# Altium schematic symbol library Other.SchLib: 179 symbols (part 1 of 11)
Pins are listed as number, name and electrical type; pins without a type are passive.

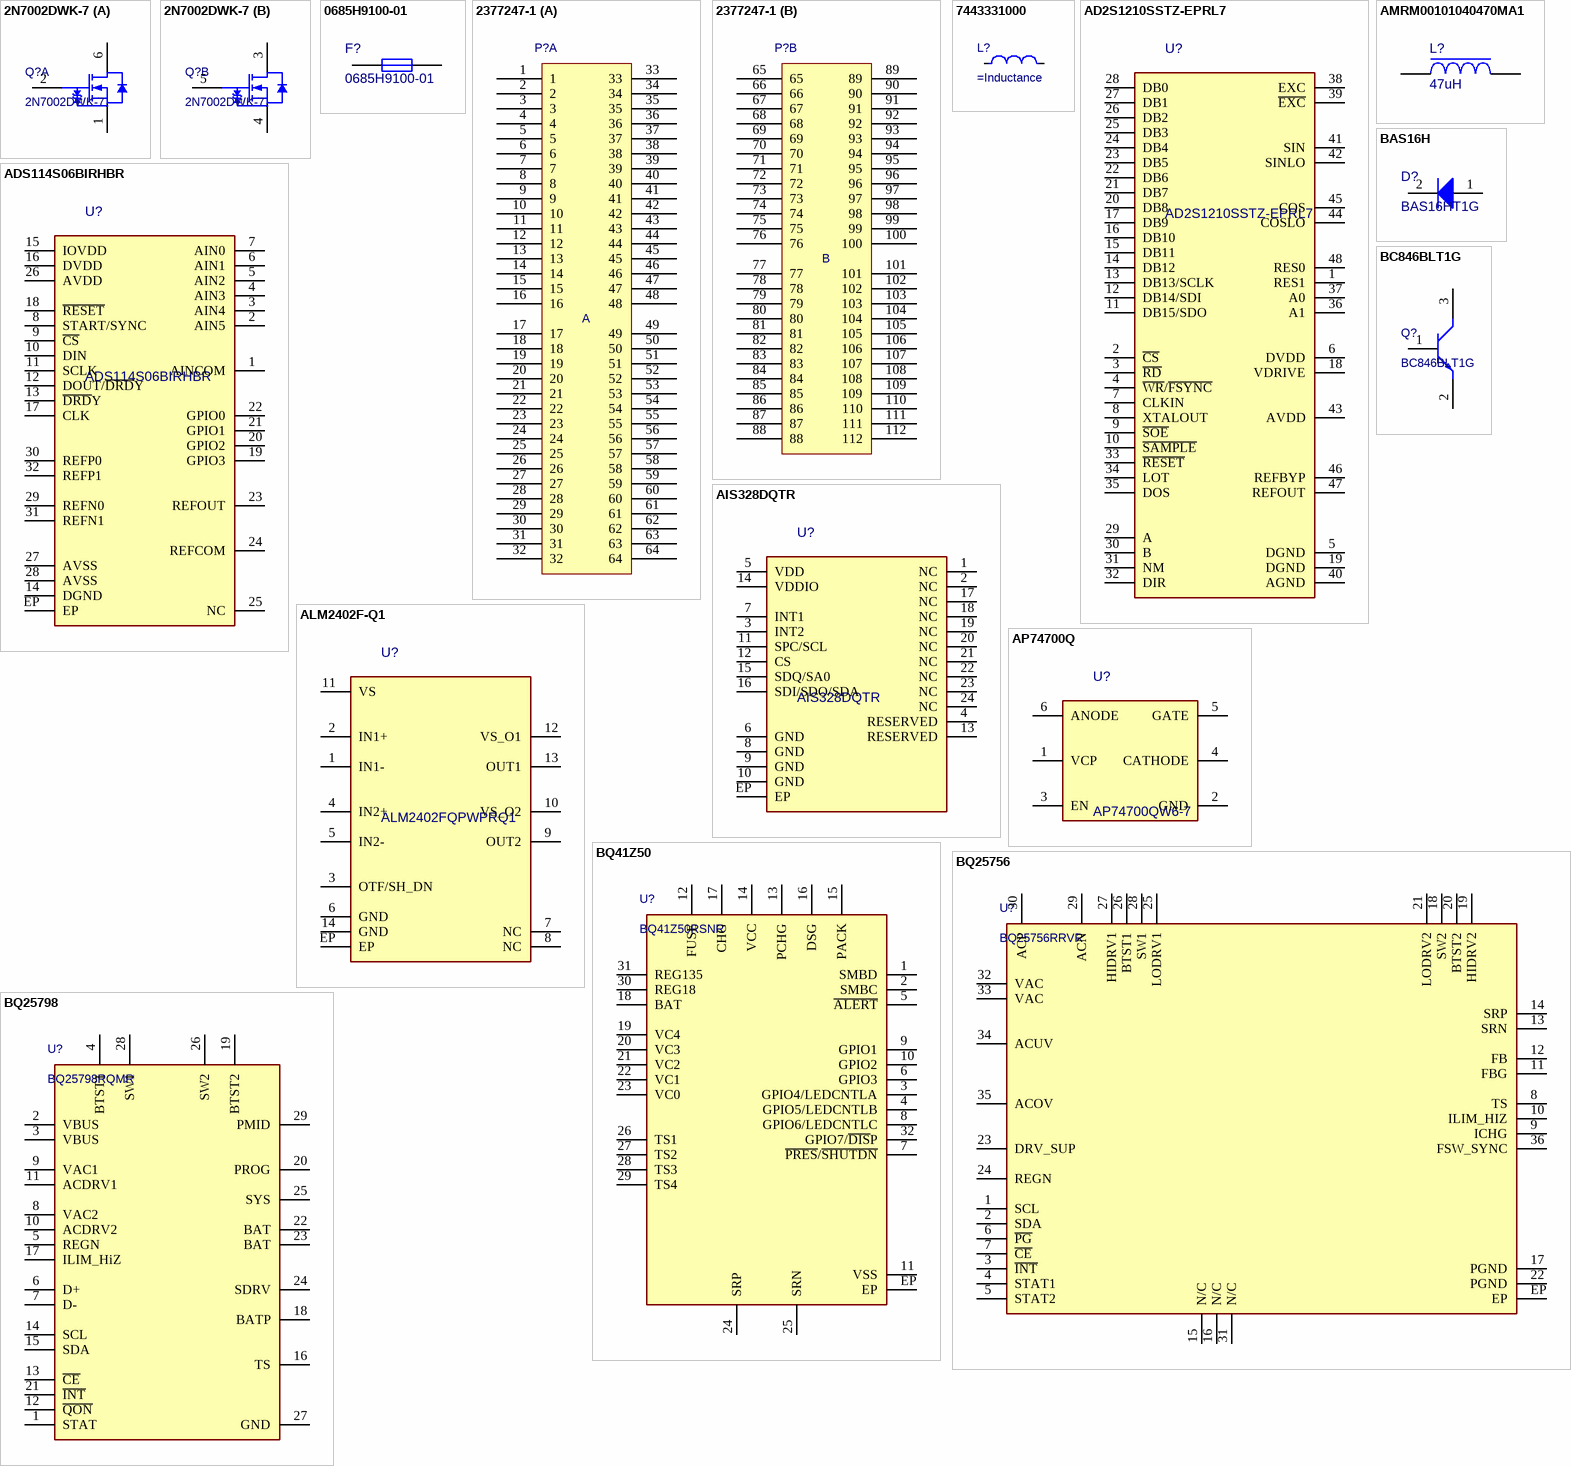
[diagram p0: symbols 2N7002DWK-7 to BQ25798]

## 2N7002DWK-7
designator Q?
MOSFET 2N-CH 60V 0.261A SOT363; Manufacturer: Diodes; Supplier: Digikey; Supplier Part Number: 31-2N7002DWK-7CT-ND; Manufacturer Part Number: 2N7002DWK-7; RoHS: No; Category: Uncategorized; Stock: 2664; Pricing: 1=0,21, 10=0,142, 100=0,0931, 500=0,07452, 1000=0,06584 (USD); Supplier 1: Digikey; Supplier Part Number 1: 31-2N7002DWK-7CT-ND
footprint SOT-363 (6 pin, 2x2.1mm)
part A pins: 1 S1, 2 G1, 6 D1
part B pins: 3 D2, 4 S2, 5 G2

## 0685H9100-01
designator F?
Fuse Chip Fast Acting 10A 125V SMD Solder Pad 1206 3.2 X 1.58 X 0.65mm Ceramic; Manufacturer: Bel Fuse; Time to Trip: 5s; Voltage Rating (DC): 32V; Supplier 1: DigiKey; Supplier Part Number 1: 5923-0685H9100-01CT-ND; Supplier: DigiKey; Supplier Part Number: 5923-0685H9100-01CT-ND; Manufacturer Part Number: 0685H9100-01; RoHS: Compliant; Category: Fuses; Stock: 123363; Pricing: 1=0,36, 5=0,302, 10=0,278, 50=0,2308, 100=0,213, 250=0,19152, 500=0,17666, 1000=0,16294 (USD); China RoHS: Compliant; Current Rating: 10A; Height: 650µm; Length: 3.2mm; Lifecycle Status: Production; Max Operating Temperature: 125°C; Min Operating Temperature: -55°C; Mounting Technology: Surface Mount; REACH SVHC: Yes; Schedule B: 8536100040, 8536100040|8536100040|8536100040|8536100040|8536100040; Voltage Rating (AC): 125V; ComponentLink1URL: https://datasheet.octopart.com:443/0685H9100-01-Bel-Fuse-datasheet-137317061.pdf?src-supplier=IHS; ComponentLink1Description: https://datasheet.octopart.com:443/0685H9100-01-Bel-Fuse-datasheet-137317061.pdf?src-supplier=IHS; ComponentLink2URL: https://datasheet.octopart.com:443/0685H9100-01-Bel-Fuse-datasheet-104408181.pdf?src-supplier=element14+APAC; ComponentLink2Description: https://datasheet.octopart.com:443/0685H9100-01-Bel-Fuse-datasheet-104408181.pdf?src-supplier=element14+APAC
footprint FUSE1206
pins: 1, 2

## 2377247-1
designator P?
footprint 32377247-1 (Automotive Connector 112Pin)
part A pins: 1, 2, 3, 4, 5, 6, 7, 8, 9, 10, 11, 12, 13, 14, 15, 16, 17, 18, 19, 20, 21, 22, 23, 24, 25, 26, 27, 28, 29, 30, 31, 32, 33, 34, 35, 36, 37, 38, 39, 40, 41, 42, 43, 44, 45, 46, 47, 48, 49, 50, 51, 52, 53, 54, 55, 56, 57, 58, 59, 60, 61, 62, 63, 64
part B pins: 65, 66, 67, 68, 69, 70, 71, 72, 73, 74, 75, 76, 77, 78, 79, 80, 81, 82, 83, 84, 85, 86, 87, 88, 89, 90, 91, 92, 93, 94, 95, 96, 97, 98, 99, 100, 101, 102, 103, 104, 105, 106, 107, 108, 109, 110, 111, 112
part A text: A
part B text: B

## 7443331000
designator L?
PowerChoke Shielded Wirewound 10uH 20% 100KHz Ferrite 9A 0.0231Ohm DCR Automotive T/R; Manufacturer: Wurth Elektronik; Manufacturer Part Number: 7443331000; DC Resistance (DCR): 22.75mΩ; Value: 10µH; Saturation Current: 9.4A; Self Resonant Frequency: 35MHz; Supplier: DigiKey; Supplier Part Number: 732-2158-1-ND; RoHS: Compliant; Category: Fixed Inductors; Stock: 12212; Pricing: 1=2,4, 10=2,32, 50=2,21, 100=2,13, 200=2,05 (USD); Ambient Temperature Range High: 75°C; Ambient Temperature Range Low: -40°C; Core Material: Ferrite; Current Rating: 9A; Height: 9.3mm; Inductance Tolerance: 20%; Length: 10.9mm; Material: Ferrite; Max Operating Temperature: 125°C; Min Operating Temperature: -40°C; Pins: 2; Width: 10mm; Inductance: 10µH; Supplier 1: DigiKey; Supplier Part Number 1: 732-2158-1-ND
pins: 1, 2

## AD2S1210SSTZ-EPRL7
designator U?
Variable Resolution, 10-Bit to 16-Bit R/D Converter with Reference Oscillator; Manufacturer: Analog Devices; Manufacturer Lifecycle Status: PRODUCTION; Interface: Parallel; Max Supply Voltage: 5.25V; Min Supply Voltage: 2.3V; Number of Channels: 2; Number of Converters: 1; Supplier 1: DigiKey; Supplier Part Number 1: 505-AD2S1210SSTZ-EPRL7CT-ND; Supplier: DigiKey; Supplier Part Number: 505-AD2S1210SSTZ-EPRL7CT-ND; Manufacturer Part Number: AD2S1210SSTZ-EPRL7; RoHS: Compliant; Category: Analog to Digital Converters (ADCs); Stock: 1388; Pricing: 1=36,68, 10=27,104, 25=24,95 (USD); Height: 1.6mm; Lifecycle Status: Production; Max Operating Temperature: 125°C; Min Operating Temperature: -40°C; Pins: 48; Schedule B: 8542390000, 8542390000|8542390000|8542390000|8542390000|8542390000|8542390000|8542390000|8542390000|8542390000|8542390000|8542390000|8542390000|8542390000|8542390000|8542390000|8542390000|8542390000|8542390000|8542390000|8542390000|8542390000|8542390000|8542390000|85; ComponentLink1URL: https://octopart.com:443/opatz8j6/c1?t=k6fJq6adrThdFycxtWTAnGFkOg80_DDUf2LogCT04gbzbe5BdBYrLFXnxFNandYyDPTV6rZWvFV2u5dAnLu4JsdXWEnecjpqc8hWMCwqGekMMp6kHhXDZa9P5HJITyOD5-VOaIhH71EaW9V9387lyfDJyPC-cQ1uiwGWwiloigfyQoUQQpcB8iB8RNLaBlcKqWrCL5SUsZXmx1U_xgDZKDZnY-eyE1vsltANIZMxL3YaJqaBAjg57PlAWL_CwrTWUsNp9kqOjzd23eczO6wHPI3Gh1TFdUTDlWJM4gP7Q3B-9ihoeQ81fcS2&src-supplier=Analog+Devices; ComponentLink1Description: https://octopart.com:443/opatz8j6/c1?t=k6fJq6adrThdFycxtWTAnGFkOg80_DDUf2LogCT04gbzbe5BdBYrLFXnxFNandYyDPTV6rZWvFV2u5dAnLu4JsdXWEnecjpqc8hWMCwqGekMMp6kHhXDZa9P5HJITyOD5-VOaIhH71EaW9V9387lyfDJyPC-cQ1uiwGWwiloigfyQoUQQpcB8iB8RNLaBlcKqWrCL5SUsZXmx1U_xgDZKDZnY-eyE1vsltANIZMxL3YaJqaBAjg57PlAWL_CwrTWUsNp9kqOjzd23eczO6wHPI3Gh1TFdUTDlWJM4gP7Q3B-9ihoeQ81fcS2&src-supplier=Analog+Devices; ComponentLink2URL: https://datasheet.octopart.com:443/AD2S1210SSTZ-EPRL7-Analog-Devices-datasheet-155502637.pdf?src-supplier=Upverter; ComponentLink2Description: https://datasheet.octopart.com:443/AD2S1210SSTZ-EPRL7-Analog-Devices-datasheet-155502637.pdf?src-supplier=Upverter; ComponentLink3URL: https://sigma.octopart.com:443/138896181/technical_drawing/Analog-Devices-AD2S1210SSTZ-EPRL7.pdf?src-supplier=Upverter; ComponentLink3Description: https://sigma.octopart.com:443/138896181/technical_drawing/Analog-Devices-AD2S1210SSTZ-EPRL7.pdf?src-supplier=Upverter; ComponentLink4URL: https://datasheet.octopart.com:443/AD2S1210SSTZ-EPRL7-Analog-Devices-datasheet-15541385.pdf?src-supplier=SHENGYU+ELECTRONICS; ComponentLink4Description: https://datasheet.octopart.com:443/AD2S1210SSTZ-EPRL7-Analog-Devices-datasheet-15541385.pdf?src-supplier=SHENGYU+ELECTRONICS; ComponentLink5URL: http://sigma.octopart.com:80/conflict_mineral_statement/Analog-Devices-company-33.pdf?src-supplier=Compliance+Statements; ComponentLink5Description: http://sigma.octopart.com:80/conflict_mineral_statement/Analog-Devices-company-33.pdf?src-supplier=Compliance+Statements; ComponentLink6URL: https://octopart.com:443/opatz8j6/c1?t=bUe-dHj52XTV9pQd6nvf8dvS-SlRDfG4kQbxo-JYlAUIf5xyTYN7Z74yZGolmkEVrRt14p2BUM1wYeKEmZ3p_PjBWAA9WCOR7G2CpJiKyGnar8Vuh7Hn9xVCu4BotM6DQhgv_nRphq5yYxQKxMDDqcZDafTpRiVNhaQkisKsT5PHNe5ktrcX3E6RzgxdIKQpGzV0TbFFt98g9YpT0LzNZjnccmwLyscWakWMjV_IP_gC4saAMPg4JPa585gSA3GixtayfKwqboOU7rvKB-6P3cz7o3LBbqMbDrEzvUjUsAv5-Xk-PQxoKxCz&src-supplier=Compliance+Statements; ComponentLink6Description: https://octopart.com:443/opatz8j6/c1?t=bUe-dHj52XTV9pQd6nvf8dvS-SlRDfG4kQbxo-JYlAUIf5xyTYN7Z74yZGolmkEVrRt14p2BUM1wYeKEmZ3p_PjBWAA9WCOR7G2CpJiKyGnar8Vuh7Hn9xVCu4BotM6DQhgv_nRphq5yYxQKxMDDqcZDafTpRiVNhaQkisKsT5PHNe5ktrcX3E6RzgxdIKQpGzV0TbFFt98g9YpT0LzNZjnccmwLyscWakWMjV_IP_gC4saAMPg4JPa585gSA3GixtayfKwqboOU7rvKB-6P3cz7o3LBbqMbDrEzvUjUsAv5-Xk-PQxoKxCz&src-supplier=Compliance+Statements
footprint LQFP48 (48 Pin, Body 7x7x1.4)
pins: 1 RES1, 2 ~{CS}, 3 ~{RD}, 4 ~{WR}/~{FSYNC}, 5 DGND, 6 DVDD, 7 CLKIN, 8 XTALOUT, 9 ~{SOE}, 10 ~{SAMPLE}, 11 DB15/SDO, 12 DB14/SDI, 13 DB13/SCLK, 14 DB12, 15 DB11, 16 DB10, 17 DB9, 18 VDRIVE, 19 DGND, 20 DB8, 21 DB7, 22 DB6, 23 DB5, 24 DB4, 25 DB3, 26 DB2, 27 DB1, 28 DB0, 29 A, 30 B, 31 NM, 32 DIR, 33 ~{RESET}, 34 LOT, 35 DOS, 36 A1, 37 A0, 38 EXC, 39 ~{EXC}, 40 AGND, 41 SIN, 42 SINLO, 43 AVDD, 44 COSLO, 45 COS, 46 REFBYP, 47 REFOUT, 48 RES0

## ADS114S06BIRHBR
designator U?
IC ADC 16BIT SIGMA-DELTA 32VQFN; Manufacturer: Texas Instruments; Supplier: Digikey; Supplier Part Number: 296-50878-2-ND; Manufacturer Part Number: ADS114S06BIRHBR; RoHS: Yes; Category: Analog to Digital Converters (ADCs); Pricing: 3000=3,76815 (USD); ComponentLink1URL: http://www.ti.com/lit/ds/symlink/ads114s06b.pdf?src-supplier=Digikey; ComponentLink1Description: http://www.ti.com/lit/ds/symlink/ads114s06b.pdf?src-supplier=Digikey; ComponentLink2URL: http://www.ti.com/lit/pdf/slyy041?src-supplier=Digikey; ComponentLink2Description: http://www.ti.com/lit/pdf/slyy041?src-supplier=Digikey; Supplier 1: Digikey; Supplier Part Number 1: 296-50878-2-ND
footprint VQFN32 (VQFN, 32-Leads, Body 5x5mm)
pins: 1 AINCOM, 2 AIN5, 3 AIN4, 4 AIN3, 5 AIN2, 6 AIN1, 7 AIN0, 8 START/SYNC, 9 ~{CS}, 10 DIN, 11 SCLK, 12 DOUT/~{DRD}Y, 13 ~{DRD}Y, 14 DGND, 15 IOVDD, 16 DVDD, 17 CLK, 18 ~{RESET}, 19 GPIO3, 20 GPIO2, 21 GPIO1, 22 GPIO0, 23 REFOUT, 24 REFCOM, 25 NC, 26 AVDD, 27 AVSS, 28 AVSS, 29 REFN0, 30 REFP0, 31 REFN1, 32 REFP1, EP

## AIS328DQTR
designator U?
High-performance ultra low-power 3-axis accelerometer | ACCELEROMETER 2-8G I2C/SPI 24QFN; Manufacturer: STMicroelectronics; Axis: X, Y, Z; Bandwidth: 500Hz; Max Supply Voltage: 3.6V; Min Supply Voltage: 2.4V; Nominal Supply Current: 450µA; Number of Circuits: 1; Operating Supply Voltage: 3.3V; Output Type: Digital; Supplier 1: DigiKey; Supplier Part Number 1: 497-13219-1-ND; Supplier: DigiKey; Supplier Part Number: 497-13219-1-ND; Manufacturer Part Number: AIS328DQTR; RoHS: Compliant; Category: Accelerometers; Stock: 11747; Pricing: 1=7,44, 5=6,716, 10=6,444, 25=6,1204, 50=5,8992, 100=5,6965, 500=5,508 (USD); Case/Package: QFN; China RoHS: Compliant; Contact Plating: Tin; Height - Seated (Max): 1.85mm; Lead Free: Lead Free; Length: 4mm; Lifecycle Status: Production; Max Operating Temperature: 105°C; Min Operating Temperature: -40°C; Mounting Technology: Surface Mount; Pins: 24; Number of Terminals: 24; Packaging: Tape & Reel; Radiation Hardening: No; REACH SVHC: Yes; Schedule B: 8542390000, 8542390000|8542390000|8542390000|8542390000|8542390000|8542390000|8542390000|8542390000|8542390000|8542390000|8542390000|8542390000|8542390000|8542390000|8542390000|8542390000|8542390000|8542390000|8542390000|8542390000|8542390000|8542390000|8542390000|85; Terminal Pitch: 500µm; Width: 4mm; ComponentLink1URL: https://datasheet.octopart.com:443/AIS328DQTR-STMicroelectronics-datasheet-12523467.pdf?src-supplier=Newark; ComponentLink1Description: https://datasheet.octopart.com:443/AIS328DQTR-STMicroelectronics-datasheet-12523467.pdf?src-supplier=Newark; ComponentLink2URL: https://datasheet.octopart.com:443/AIS328DQTR-STMicroelectronics-datasheet-10836675.pdf?src-supplier=Factory+Futures; ComponentLink2Description: https://datasheet.octopart.com:443/AIS328DQTR-STMicroelectronics-datasheet-10836675.pdf?src-supplier=Factory+Futures; ComponentLink3URL: https://datasheet.octopart.com:443/AIS328DQTR-STMicroelectronics-datasheet-141402747.pdf?src-supplier=element14+APAC; ComponentLink3Description: https://datasheet.octopart.com:443/AIS328DQTR-STMicroelectronics-datasheet-141402747.pdf?src-supplier=element14+APAC
footprint VQFN24 (VQFN, 16-Leads, Body 4x4mm)
pins: 1 NC, 2 NC, 3 INT2, 4 RESERVED, 5 VDD, 6 GND, 7 INT1, 8 GND, 9 GND, 10 GND, 11 SPC/SCL, 12 CS, 13 RESERVED, 14 VDDIO, 15 SDQ/SA0, 16 SDI/SDO/SDA, 17 NC, 18 NC, 19 NC, 20 NC, 21 NC, 22 NC, 23 NC, 24 NC, EP

## ALM2402F-Q1
designator U?, comment ALM2402FQPWPRQ1
Dual operational amplifier with high current output and slew rate 14-HTSSOP -40 to 125; Manufacturer: Texas Instruments; Manufacturer Lifecycle Status: ACTIVE; Input Bias Current: 3.5nA; Input Offset Voltage (Vos): 1mV; Max Supply Voltage: 16V; Min Supply Voltage: 4.5V; Number of Channels: 2; Output Current per Channel: 400mA; Response Time: 2µs; Voltage Gain: 93dB; Supplier 1: DigiKey; Supplier Part Number 1: 296-ALM2402FQPWPRQ1CT-ND; Supplier: DigiKey; Supplier Part Number: 296-ALM2402FQPWPRQ1CT-ND; Manufacturer Part Number: ALM2402FQPWPRQ1; RoHS: Compliant; Category: Amplifiers - Op Amps, Buffer, Instrumentation; Stock: 2833; Pricing: 1=3,33, 10=2,502, 25=2,2952, 100=2,0672, 250=1,95848, 500=1,89296, 1000=1,83904 (USD); Ambient Temperature Range High: 125°C; Height: 1.2mm; Length: 5mm; Lifecycle Status: Production; Max Operating Temperature: 125°C; Min Operating Temperature: -40°C; Pins: 14; Thickness: 1mm; Width: 4.4mm; ComponentLink1URL: https://sigma.octopart.com:443/159569814/technical_drawing/Texas-Instruments-ALM2402FQPWPRQ1.pdf?src-supplier=Texas+Instruments; ComponentLink1Description: https://sigma.octopart.com:443/159569814/technical_drawing/Texas-Instruments-ALM2402FQPWPRQ1.pdf?src-supplier=Texas+Instruments; ComponentLink2URL: https://octopart.com:443/opatz8j6/c1?t=ZPJvvuPEpGpES_y9EoHHU01kErOd9eZN7Gx7z2LTZC5bpM9zJnn1LW-JbGqNri5mz2O5lzJ6UhfOc46BO5zOXJrvDKm0VlnxasqbOLQLOgbPoqEdQG3t9SYm2umos89xdDxf0XR27TUST3JNQlDir6P_KbZ1PxZHW9d-RdisXjF-EWsCDIFtIXJ6PS1KiiVKRk2qpXgEQkvnhlyRkUvVqJJgydVmn0OgYlFDpXYimEwaFlUpuIdaDGZmuFo_-uwRGj4YbJSrjYeBWO0Q_-UyrcG1wvn-j-xBbbnvHOa98eOF4czOQdpe2uraEiOfYVpG4pgI5ze8N1Yo4dbsKj3lJ-AfM_D9BxtgFVry6fSkeAtcCVjhbb--6O4yKaCOhRt7Vqt9W7T5dZ7d6Q&src-supplier=Texas+Instruments; ComponentLink2Description: https://octopart.com:443/opatz8j6/c1?t=ZPJvvuPEpGpES_y9EoHHU01kErOd9eZN7Gx7z2LTZC5bpM9zJnn1LW-JbGqNri5mz2O5lzJ6UhfOc46BO5zOXJrvDKm0VlnxasqbOLQLOgbPoqEdQG3t9SYm2umos89xdDxf0XR27TUST3JNQlDir6P_KbZ1PxZHW9d-RdisXjF-EWsCDIFtIXJ6PS1KiiVKRk2qpXgEQkvnhlyRkUvVqJJgydVmn0OgYlFDpXYimEwaFlUpuIdaDGZmuFo_-uwRGj4YbJSrjYeBWO0Q_-UyrcG1wvn-j-xBbbnvHOa98eOF4czOQdpe2uraEiOfYVpG4pgI5ze8N1Yo4dbsKj3lJ-AfM_D9BxtgFVry6fSkeAtcCVjhbb--6O4yKaCOhRt7Vqt9W7T5dZ7d6Q&src-supplier=Texas+Instruments; ComponentLink3URL: https://sigma.octopart.com:443/49250594/technical_drawing/Texas-Instruments-ALM2402FQPWPRQ1.pdf?src-supplier=Texas+Instruments; ComponentLink3Description: https://sigma.octopart.com:443/49250594/technical_drawing/Texas-Instruments-ALM2402FQPWPRQ1.pdf?src-supplier=Texas+Instruments; ComponentLink4URL: https://datasheet.octopart.com:443/ALM2402FQPWPRQ1-Texas-Instruments-datasheet-151121670.pdf?src-supplier=SHENGYU+ELECTRONICS; ComponentLink4Description: https://datasheet.octopart.com:443/ALM2402FQPWPRQ1-Texas-Instruments-datasheet-151121670.pdf?src-supplier=SHENGYU+ELECTRONICS; ComponentLink5URL: http://sigma.octopart.com:80/conflict_mineral_statement/Texas-Instruments-company-63.pdf?src-supplier=Compliance+Statements; ComponentLink5Description: http://sigma.octopart.com:80/conflict_mineral_statement/Texas-Instruments-company-63.pdf?src-supplier=Compliance+Statements; ComponentLink6URL: http://sigma.octopart.com:80/reach_statement/Texas-Instruments-company-64.pdf?src-supplier=Compliance+Statements; ComponentLink6Description: http://sigma.octopart.com:80/reach_statement/Texas-Instruments-company-64.pdf?src-supplier=Compliance+Statements
footprint TSSOP-14-EP (14-TSSOP (0.173", 4.40mm Width))
pins: 1 IN1-, 2 IN1+, 3 OTF/SH_DN, 4 IN2+, 5 IN2-, 6 GND, 7 NC, 8 NC, 9 OUT2, 10 VS_O2, 11 VS, 12 VS_O1, 13 OUT1, 14 GND, EP

## AMRM00101040470MA1
designator L?, comment 47uH
IND 47UH SHLD 20% 3.0A; Manufacturer: Pulse; Manufacturer Part Number: AMRM00101040470MA1; Supplier: Digikey; Supplier Part Number: 553-AMRM00101040470MA1CT-ND; RoHS: No; Stock: 9595; Pricing: 1=0,6, 10=0,497, 25=0,46, 50=0,4336, 100=0,4089, 250=0,37824 (USD); ComponentLink1URL: https://datasheet.octopart.com/AMRM00101040470MA1-Pulse-datasheet-175919293.pdf?src-supplier=Sager+Electronics; ComponentLink1Description: https://datasheet.octopart.com/AMRM00101040470MA1-Pulse-datasheet-175919293.pdf?src-supplier=Sager+Electronics; Supplier 1: Digikey; Supplier Part Number 1: 553-AMRM00101040470MA1CT-ND; Inductance: 47uH
footprint AMRM00101040470MA1 (Inductor 11.6x10.2)
pins: 1, 2

## AP74700Q
designator U?, comment AP74700QW6-7
LOAD SWITCH SOT26 T&R 3K; Manufacturer: Diodes; Number of Channels: 1; Supplier 1: Digikey; Supplier Part Number 1: 31-AP74700QW6-7CT-ND; Supplier: Digikey; Supplier Part Number: 31-AP74700QW6-7CT-ND; Manufacturer Part Number: AP74700QW6-7; RoHS: No; Category: Uncategorized; Stock: 1056; Pricing: 1=1,23, 10=0,748, 25=0,6224, 100=0,4805, 250=0,41084, 500=0,36796, 1000=0,33204 (USD); ComponentLink1URL: https://datasheet.octopart.com/AP74700QW6-7-Diodes-Inc.-datasheet-165818440.pdf?src-supplier=Future+Electronics; ComponentLink1Description: https://datasheet.octopart.com/AP74700QW6-7-Diodes-Inc.-datasheet-165818440.pdf?src-supplier=Future+Electronics
footprint SOT26 (SOT-26 - 6pin, 3x3.1mm)
pins: 1 VCP, 2 GND, 3 EN, 4 CATHODE, 5 GATE, 6 ANODE

## BAS16H
designator D?, comment BAS16HT1G
Diode, Rectifier, Switching, Vr 75VDC, If 200MA, Pkg SOD-323, Vf 1250MV, Trr 6NS, Cj 2PF; Manufacturer: onsemi; Manufacturer Lifecycle Status: ACTIVE; Breakdown Voltage: 75V; Element Configuration: Single; Forward Voltage: 715mV; Max Forward Surge Current (Ifsm): 500mA; Max Power Dissipation: 200mW; Max Repetitive Reverse Voltage (Vrrm): 85V; Max Reverse Leakage Current: 1µA; Max Reverse Voltage (DC): 100V; Max Surge Current: 600mA; Number of Elements: 1; Polarity: Standard; Supplier 1: DigiKey; Supplier Part Number 1: BAS16HT1GOSCT-ND; Supplier: DigiKey; Supplier Part Number: BAS16HT1GOSCT-ND; Manufacturer Part Number: BAS16HT1G; RoHS: Compliant; Category: Rectifier Diodes; Stock: 518468; Pricing: 1=0,1, 10=0,049, 100=0,0422, 500=0,03042, 1000=0,02655 (USD); Average Rectified Current: 200mA; Value: 2pF; China RoHS: Compliant; Contact Plating: Tin; Current Rating: 200mA; Forward Current: 200mA; Height: 900µm; Lead Free: Lead Free; Length: 1.7mm; Lifecycle Status: Production; Max Operating Temperature: 150°C; Max Output current: 200mA; Min Operating Temperature: -55°C; Mounting Technology: Surface Mount; Pins: 2; Number of Terminals: 2; Output Current: 200mA; Packaging: Tape and Reel; Peak Non-Repetitive Surge Current: 600mA; Peak Reverse Current: 1µA; Power Dissipation: 200mW; Radiation Hardening: No; REACH SVHC: No; Recovery Time: 6ns; Reverse Recovery Time: 6ns; Reverse Standoff Voltage: 85V; Reverse Voltage: 85V; Schedule B: 8541100070, 8541100070|8541100070|8541100070|8541100070|8541100070; Voltage Rating (DC): 75V; Weight: 33mg; Width: 1.25mm; ComponentLink1URL: https://datasheet.octopart.com:443/BAS16HT1G-ON-Semiconductor-datasheet-115937.pdf?src-supplier=element14+APAC; ComponentLink1Description: https://datasheet.octopart.com:443/BAS16HT1G-ON-Semiconductor-datasheet-115937.pdf?src-supplier=element14+APAC; ComponentLink2URL: https://datasheet.octopart.com:443/BAS16HT1G-ON-Semiconductor-datasheet-67293425.pdf?src-supplier=element14+APAC; ComponentLink2Description: https://datasheet.octopart.com:443/BAS16HT1G-ON-Semiconductor-datasheet-67293425.pdf?src-supplier=element14+APAC; ComponentLink3URL: https://datasheet.octopart.com:443/BAS16HT1G-ON-Semiconductor-datasheet-86781274.pdf?src-supplier=element14+APAC; ComponentLink3Description: https://datasheet.octopart.com:443/BAS16HT1G-ON-Semiconductor-datasheet-86781274.pdf?src-supplier=element14+APAC; ComponentLink4URL: https://datasheet.octopart.com:443/BAS16HT1G-onsemi-datasheet-180957826.pdf?src-supplier=IHS; ComponentLink4Description: https://datasheet.octopart.com:443/BAS16HT1G-onsemi-datasheet-180957826.pdf?src-supplier=IHS; ComponentLink5URL: https://datasheet.octopart.com:443/BAS16HT1G-ON-Semiconductor-datasheet-30892817.pdf?src-supplier=IHS; ComponentLink5Description: https://datasheet.octopart.com:443/BAS16HT1G-ON-Semiconductor-datasheet-30892817.pdf?src-supplier=IHS; ComponentLink6URL: https://datasheet.octopart.com:443/BAS16HT1G-ON-Semiconductor-datasheet-33006779.pdf?src-supplier=Upverter; ComponentLink6Description: https://datasheet.octopart.com:443/BAS16HT1G-ON-Semiconductor-datasheet-33006779.pdf?src-supplier=Upverter; ComponentLink7URL: https://datasheet.octopart.com:443/BAS16HT1G-ON-Semiconductor-datasheet-137916682.pdf?src-supplier=onsemi; ComponentLink7Description: https://datasheet.octopart.com:443/BAS16HT1G-ON-Semiconductor-datasheet-137916682.pdf?src-supplier=onsemi; ComponentLink8URL: https://datasheet.octopart.com:443/BAS16HT1G-ON-Semiconductor-datasheet-86688369.pdf?src-supplier=onsemi; ComponentLink8Description: https://datasheet.octopart.com:443/BAS16HT1G-ON-Semiconductor-datasheet-86688369.pdf?src-supplier=onsemi; ComponentLink9URL: https://datasheet.octopart.com:443/BAS16HT1G-onsemi-datasheet-181958668.pdf?src-supplier=Newark; ComponentLink9Description: https://datasheet.octopart.com:443/BAS16HT1G-onsemi-datasheet-181958668.pdf?src-supplier=Newark; ComponentLink10URL: https://datasheet.octopart.com:443/BAS16HT1G-Fairchild-Semiconductor-datasheet-67878755.pdf?src-supplier=Newark; ComponentLink10Description: https://datasheet.octopart.com:443/BAS16HT1G-Fairchild-Semiconductor-datasheet-67878755.pdf?src-supplier=Newark; ComponentLink11URL: https://datasheet.octopart.com:443/BAS16HT1G-Fairchild-Semiconductor-datasheet-67809726.pdf?src-supplier=Newark; ComponentLink11Description: https://datasheet.octopart.com:443/BAS16HT1G-Fairchild-Semiconductor-datasheet-67809726.pdf?src-supplier=Newark; ComponentLink12URL: https://datasheet.octopart.com:443/BAS16HT1G-Fairchild-Semiconductor-datasheet-68558646.pdf?src-supplier=Newark; ComponentLink12Description: https://datasheet.octopart.com:443/BAS16HT1G-Fairchild-Semiconductor-datasheet-68558646.pdf?src-supplier=Newark; ComponentLink13URL: https://datasheet.octopart.com:443/BAS16HT1G-Fairchild-Semiconductor-datasheet-5362264.pdf?src-supplier=Fairchild+Semiconductor; ComponentLink13Description: https://datasheet.octopart.com:443/BAS16HT1G-Fairchild-Semiconductor-datasheet-5362264.pdf?src-supplier=Fairchild+Semiconductor; ComponentLink14URL: https://sigma.octopart.com:443/17344476/technical_drawing/Fairchild-Semiconductor-BAS16HT1G.pdf?src-supplier=Fairchild+Semiconductor; ComponentLink14Description: https://sigma.octopart.com:443/17344476/technical_drawing/Fairchild-Semiconductor-BAS16HT1G.pdf?src-supplier=Fairchild+Semiconductor; ComponentLink15URL: https://datasheet.octopart.com:443/BAS16HT1G-onsemi-datasheet-21771981.pdf?src-supplier=Master+Electronics; ComponentLink15Description: https://datasheet.octopart.com:443/BAS16HT1G-onsemi-datasheet-21771981.pdf?src-supplier=Master+Electronics; ComponentLink16URL: https://datasheet.octopart.com:443/BAS16HT1G-ON-Semiconductor-datasheet-17590349.pdf?src-supplier=TME; ComponentLink16Description: https://datasheet.octopart.com:443/BAS16HT1G-ON-Semiconductor-datasheet-17590349.pdf?src-supplier=TME; ComponentLink17URL: https://datasheet.octopart.com:443/BAS16HT1G-ON-Semiconductor-datasheet-14053657.pdf?src-supplier=iiiC; ComponentLink17Description: https://datasheet.octopart.com:443/BAS16HT1G-ON-Semiconductor-datasheet-14053657.pdf?src-supplier=iiiC; ComponentLink18URL: https://datasheet.octopart.com:443/BAS16HT1G-ON-Semiconductor-datasheet-9788525.pdf?src-supplier=RS+(Formerly+Allied+Electronics); ComponentLink18Description: https://datasheet.octopart.com:443/BAS16HT1G-ON-Semiconductor-datasheet-9788525.pdf?src-supplier=RS+(Formerly+Allied+Electronics); ComponentLink19URL: https://datasheet.octopart.com:443/BAS16HT1G-ON-Semiconductor-datasheet-8443271.pdf?src-supplier=Jameco; ComponentLink19Description: https://datasheet.octopart.com:443/BAS16HT1G-ON-Semiconductor-datasheet-8443271.pdf?src-supplier=Jameco; ComponentLink20URL: https://datasheet.octopart.com:443/BAS16HT1G-Fairchild-Semiconductor-datasheet-68652414.pdf?src-supplier=Farnell; ComponentLink20Description: https://datasheet.octopart.com:443/BAS16HT1G-Fairchild-Semiconductor-datasheet-68652414.pdf?src-supplier=Farnell; ComponentLink21URL: https://datasheet.octopart.com:443/BAS16HT1G-Fairchild-Semiconductor-datasheet-78857374.pdf?src-supplier=Farnell; ComponentLink21Description: https://datasheet.octopart.com:443/BAS16HT1G-Fairchild-Semiconductor-datasheet-78857374.pdf?src-supplier=Farnell; ComponentLink22URL: http://sigma.octopart.com:80/15540786/rohs_certificate/ON-Semiconductor-BAS16HT1G.pdf?src-supplier=Compliance+Statements; ComponentLink22Description: http://sigma.octopart.com:80/15540786/rohs_certificate/ON-Semiconductor-BAS16HT1G.pdf?src-supplier=Compliance+Statements; ComponentLink23URL: http://sigma.octopart.com:80/15674185/materials_sheet/ON-Semiconductor-BAS16HT1G.csv?src-supplier=Compliance+Statements; ComponentLink23Description: http://sigma.octopart.com:80/15674185/materials_sheet/ON-Semiconductor-BAS16HT1G.csv?src-supplier=Compliance+Statements; ComponentLink24URL: http://sigma.octopart.com:80/150603887/rohs_statement/ON-Semiconductor-BAS16HT1G.pdf?src-supplier=Compliance+Statements; ComponentLink24Description: http://sigma.octopart.com:80/150603887/rohs_statement/ON-Semiconductor-BAS16HT1G.pdf?src-supplier=Compliance+Statements; ComponentLink25URL: http://sigma.octopart.com:80/17344474/reach_statement/Fairchild-Semiconductor-BAS16HT1G.pdf?src-supplier=Compliance+Statements; ComponentLink25Description: http://sigma.octopart.com:80/17344474/reach_statement/Fairchild-Semiconductor-BAS16HT1G.pdf?src-supplier=Compliance+Statements; ComponentLink26URL: http://sigma.octopart.com:80/17344475/materials_sheet/Fairchild-Semiconductor-BAS16HT1G.pdf?src-supplier=Compliance+Statements; ComponentLink26Description: http://sigma.octopart.com:80/17344475/materials_sheet/Fairchild-Semiconductor-BAS16HT1G.pdf?src-supplier=Compliance+Statements; ComponentLink27URL: http://sigma.octopart.com:80/33049500/reach_statement/Fairchild-Semiconductor-BAS16HT1G.pdf?src-supplier=Compliance+Statements; ComponentLink27Description: http://sigma.octopart.com:80/33049500/reach_statement/Fairchild-Semiconductor-BAS16HT1G.pdf?src-supplier=Compliance+Statements; ComponentLink28URL: http://sigma.octopart.com:80/33049507/materials_sheet/Fairchild-Semiconductor-BAS16HT1G.pdf?src-supplier=Compliance+Statements; ComponentLink28Description: http://sigma.octopart.com:80/33049507/materials_sheet/Fairchild-Semiconductor-BAS16HT1G.pdf?src-supplier=Compliance+Statements; ComponentLink29URL: http://sigma.octopart.com:80/reach_statement/ON-Semiconductor-company-79.pdf?src-supplier=Compliance+Statements; ComponentLink29Description: http://sigma.octopart.com:80/reach_statement/ON-Semiconductor-company-79.pdf?src-supplier=Compliance+Statements; ComponentLink30URL: http://sigma.octopart.com:80/reach_statement/Fairchild-Semiconductor-company-9.pdf?src-supplier=Compliance+Statements; ComponentLink30Description: http://sigma.octopart.com:80/reach_statement/Fairchild-Semiconductor-company-9.pdf?src-supplier=Compliance+Statements; ComponentLink31URL: http://sigma.octopart.com:80/rohs_statement/Fairchild-Semiconductor-company-10.pdf?src-supplier=Compliance+Statements; ComponentLink31Description: http://sigma.octopart.com:80/rohs_statement/Fairchild-Semiconductor-company-10.pdf?src-supplier=Compliance+Statements; ComponentLink32URL: http://sigma.octopart.com:80/rohs_statement/Fairchild-Semiconductor-company-11.pdf?src-supplier=Compliance+Statements; ComponentLink32Description: http://sigma.octopart.com:80/rohs_statement/Fairchild-Semiconductor-company-11.pdf?src-supplier=Compliance+Statements; ComponentLink33URL: https://octopart.com:443/opatz8j6/c1?t=3sa6m3SxYoge9M9qGb4nmKLqBfrMfXhiJOp9hKZyxrh3ehL_BI6LOToHUMMaKyKket4Z1sj90yfHaTytxDd4kTrDgXQ_hpbHeYPETYjP_WAA8e26rBtBfn1_I3ReRiAJKkCOBeYfrSkepAVHT7WZ6faBb9xXyATk-AGWAiJUyc-olZRBf61e2PglA_o6oH6j0ZhWcjIMQr1OaZAsEemOypn9rSngJhyD2Q95BhY21uejmtdLxB3PfquCAALl-V8d6PzywhadjY_2sOYX1IRBN1ePsZlil2tKA3QQi1fpa_2NXZPSYNF3QM8W_-CjkL6rbjh6IOEZ1PtqSUWglJ_mpLUY0n0_jcKHQN0&src-supplier=Compliance+Statements; ComponentLink33Description: https://octopart.com:443/opatz8j6/c1?t=3sa6m3SxYoge9M9qGb4nmKLqBfrMfXhiJOp9hKZyxrh3ehL_BI6LOToHUMMaKyKket4Z1sj90yfHaTytxDd4kTrDgXQ_hpbHeYPETYjP_WAA8e26rBtBfn1_I3ReRiAJKkCOBeYfrSkepAVHT7WZ6faBb9xXyATk-AGWAiJUyc-olZRBf61e2PglA_o6oH6j0ZhWcjIMQr1OaZAsEemOypn9rSngJhyD2Q95BhY21uejmtdLxB3PfquCAALl-V8d6PzywhadjY_2sOYX1IRBN1ePsZlil2tKA3QQi1fpa_2NXZPSYNF3QM8W_-CjkL6rbjh6IOEZ1PtqSUWglJ_mpLUY0n0_jcKHQN0&src-supplier=Compliance+Statements; ComponentLink34URL: https://octopart.com:443/opatz8j6/c1?t=BeFj0GxZ0-VbTF2PfXHp6AnktMjJ4eXiHVy6Fo2zviSPGKYfBUukSRk8rDGnUJcdwRnP-ck7I8FMZezNYJ_1dK-dO54YBllHyBY0SnmYOKk1p3exRmhljXa6F2Bpgkcpr13sfMJDmDHTvXk40ahuM8IGb89TNn7vkLTl85aZ0H7gci15r64hfA7LHtbGW7rg3VX_V3sXUHsPHwOLj-ZkG6CcHSAMpHRU5QV5habCtdOmhiw0JT4yp_gLtU2Jo7wuRm4gw6v2ip48IG5kBRN8SehbmPIFgmt3ZxmeBnsXKDdBqXiqR7ew8NtlDUgnfFMGU43dhWEbA7nmL_UII0preXOLm51me80stQ&src-supplier=Compliance+Statements; ComponentLink34Description: https://octopart.com:443/opatz8j6/c1?t=BeFj0GxZ0-VbTF2PfXHp6AnktMjJ4eXiHVy6Fo2zviSPGKYfBUukSRk8rDGnUJcdwRnP-ck7I8FMZezNYJ_1dK-dO54YBllHyBY0SnmYOKk1p3exRmhljXa6F2Bpgkcpr13sfMJDmDHTvXk40ahuM8IGb89TNn7vkLTl85aZ0H7gci15r64hfA7LHtbGW7rg3VX_V3sXUHsPHwOLj-ZkG6CcHSAMpHRU5QV5habCtdOmhiw0JT4yp_gLtU2Jo7wuRm4gw6v2ip48IG5kBRN8SehbmPIFgmt3ZxmeBnsXKDdBqXiqR7ew8NtlDUgnfFMGU43dhWEbA7nmL_UII0preXOLm51me80stQ&src-supplier=Compliance+Statements
footprint SOD-123 (SOD, 2-Leads, Body 2.69x1.6mm)
pins: 1, 2

## BC846BLT1G
designator Q?
TRANS NPN 65V 0.1A SOT23-3; Manufacturer: onsemi; Manufacturer Lifecycle Status: ACTIVE; Collector Base Voltage (VCBO): 80V; Collector Emitter Saturation Voltage: 600mV; Current Rating: 100mA; Element Configuration: Single; Emitter Base Voltage (VEBO): 6V; Frequency: 100MHz; hFE Min: 200; Max Power Dissipation: 300mW; Noise Figure: 10dB; Number of Elements: 1; Type: General Purpose; Supplier 1: DigiKey; Supplier Part Number 1: BC846BLT1GOSCT-ND; Supplier: DigiKey; Supplier Part Number: BC846BLT1GOSCT-ND; Manufacturer Part Number: BC846BLT1G; RoHS: Compliant; Category: BJTs; Stock: 628122; Pricing: 1=0,13, 10=0,081, 100=0,0496, 500=0,03586, 1000=0,03138 (USD); Case/Package: SOT-23-3; China RoHS: Compliant; Collector Emitter Breakdown Voltage: 65V; Collector Emitter Voltage (VCEO): 65V; Contact Plating: Tin; Gain Bandwidth Product: 100MHz; Halogen Free: Halogen Free; Height: 940µm; Lead Free: Lead Free; Length: 2.9mm; Lifecycle Status: Production; Max Breakdown Voltage: 65V; Max Collector Current: 100mA; Clock Frequency: 100MHz; Max Operating Temperature: 150°C; Min Operating Temperature: -55°C; Pins: 3; Number of Terminals: 3; Packaging: Tape and Reel; Polarity: NPN; Power Dissipation: 300mW; Radiation Hardening: No; REACH SVHC: Yes; Schedule B: 8541210080, 8541210080|8541210080|8541210080|8541210080|8541210080|8541210080|8541210080|8541210080|8541210080|8541210080|8541210080|8541210080|8541210080|8541210080|8541210080|8541210080|8541210080|8541210080|8541210080|8541210080|8541210080|8541210080|8541210080|85; Transition Frequency: 100MHz; Voltage Rating (DC): 65V; Width: 1.3mm; ComponentLink1URL: https://datasheet.octopart.com:443/BC846BLT1G-onsemi-datasheet-180957975.pdf?src-supplier=IHS; ComponentLink1Description: https://datasheet.octopart.com:443/BC846BLT1G-onsemi-datasheet-180957975.pdf?src-supplier=IHS; ComponentLink2URL: https://datasheet.octopart.com:443/BC846BLT1G-ON-Semiconductor-datasheet-10854521.pdf?src-supplier=element14+APAC; ComponentLink2Description: https://datasheet.octopart.com:443/BC846BLT1G-ON-Semiconductor-datasheet-10854521.pdf?src-supplier=element14+APAC; ComponentLink3URL: https://datasheet.octopart.com:443/BC846BLT1G-ON-Semiconductor-datasheet-41194337.pdf?src-supplier=element14+APAC; ComponentLink3Description: https://datasheet.octopart.com:443/BC846BLT1G-ON-Semiconductor-datasheet-41194337.pdf?src-supplier=element14+APAC; ComponentLink4URL: https://datasheet.octopart.com:443/BC846BLT1G-ON-Semiconductor-datasheet-9893987.pdf?src-supplier=element14+APAC; ComponentLink4Description: https://datasheet.octopart.com:443/BC846BLT1G-ON-Semiconductor-datasheet-9893987.pdf?src-supplier=element14+APAC; ComponentLink5URL: https://datasheet.octopart.com:443/BC846BLT1G-ON-Semiconductor-datasheet-8468497.pdf?src-supplier=onsemi; ComponentLink5Description: https://datasheet.octopart.com:443/BC846BLT1G-ON-Semiconductor-datasheet-8468497.pdf?src-supplier=onsemi; ComponentLink6URL: https://datasheet.octopart.com:443/BC846BLT1G-ON-Semiconductor-datasheet-8324740.pdf?src-supplier=onsemi; ComponentLink6Description: https://datasheet.octopart.com:443/BC846BLT1G-ON-Semiconductor-datasheet-8324740.pdf?src-supplier=onsemi; ComponentLink7URL: https://datasheet.octopart.com:443/BC846BLT1G-ON-Semiconductor-datasheet-115882.pdf?src-supplier=onsemi; ComponentLink7Description: https://datasheet.octopart.com:443/BC846BLT1G-ON-Semiconductor-datasheet-115882.pdf?src-supplier=onsemi; ComponentLink8URL: https://datasheet.octopart.com:443/BC846BLT1G-ON-Semiconductor-datasheet-139009607.pdf?src-supplier=onsemi; ComponentLink8Description: https://datasheet.octopart.com:443/BC846BLT1G-ON-Semiconductor-datasheet-139009607.pdf?src-supplier=onsemi; ComponentLink9URL: https://datasheet.octopart.com:443/BC846BLT1G-ON-Semiconductor-datasheet-141916637.pdf?src-supplier=Upverter; ComponentLink9Description: https://datasheet.octopart.com:443/BC846BLT1G-ON-Semiconductor-datasheet-141916637.pdf?src-supplier=Upverter; ComponentLink10URL: https://datasheet.octopart.com:443/BC846BLT1G-onsemi-datasheet-175416532.pdf?src-supplier=Newark; ComponentLink10Description: https://datasheet.octopart.com:443/BC846BLT1G-onsemi-datasheet-175416532.pdf?src-supplier=Newark; ComponentLink11URL: https://datasheet.octopart.com:443/BC846BLT1G-onsemi-datasheet-157205205.pdf?src-supplier=TME; ComponentLink11Description: https://datasheet.octopart.com:443/BC846BLT1G-onsemi-datasheet-157205205.pdf?src-supplier=TME; ComponentLink12URL: https://datasheet.octopart.com:443/BC846BLT1G-ON-Semiconductor-datasheet-78758852.pdf?src-supplier=TME; ComponentLink12Description: https://datasheet.octopart.com:443/BC846BLT1G-ON-Semiconductor-datasheet-78758852.pdf?src-supplier=TME; ComponentLink13URL: https://datasheet.octopart.com:443/BC846BLT1G-ON-Semiconductor-datasheet-14064326.pdf?src-supplier=iiiC; ComponentLink13Description: https://datasheet.octopart.com:443/BC846BLT1G-ON-Semiconductor-datasheet-14064326.pdf?src-supplier=iiiC; ComponentLink14URL: https://datasheet.octopart.com:443/BC846BLT1G-ON-Semiconductor-datasheet-7543137.pdf?src-supplier=Jameco; ComponentLink14Description: https://datasheet.octopart.com:443/BC846BLT1G-ON-Semiconductor-datasheet-7543137.pdf?src-supplier=Jameco; ComponentLink15URL: https://datasheet.octopart.com:443/BC846BLT1G-ON-Semiconductor-datasheet-9755513.pdf?src-supplier=RS+(Formerly+Allied+Electronics); ComponentLink15Description: https://datasheet.octopart.com:443/BC846BLT1G-ON-Semiconductor-datasheet-9755513.pdf?src-supplier=RS+(Formerly+Allied+Electronics); ComponentLink16URL: https://datasheet.octopart.com:443/BC846BLT1G-ON-Semiconductor-datasheet-5339073.pdf?src-supplier=Farnell; ComponentLink16Description: https://datasheet.octopart.com:443/BC846BLT1G-ON-Semiconductor-datasheet-5339073.pdf?src-supplier=Farnell; ComponentLink17URL: https://datasheet.octopart.com:443/BC846BLT1G-ON-Semiconductor-datasheet-7627526.pdf?src-supplier=Farnell; ComponentLink17Description: https://datasheet.octopart.com:443/BC846BLT1G-ON-Semiconductor-datasheet-7627526.pdf?src-supplier=Farnell; ComponentLink18URL: http://sigma.octopart.com:80/15540786/rohs_certificate/ON-Semiconductor-BC846BLT1G.pdf?src-supplier=Compliance+Statements; ComponentLink18Description: http://sigma.octopart.com:80/15540786/rohs_certificate/ON-Semiconductor-BC846BLT1G.pdf?src-supplier=Compliance+Statements; ComponentLink19URL: http://sigma.octopart.com:80/15674313/materials_sheet/ON-Semiconductor-BC846BLT1G.csv?src-supplier=Compliance+Statements; ComponentLink19Description: http://sigma.octopart.com:80/15674313/materials_sheet/ON-Semiconductor-BC846BLT1G.csv?src-supplier=Compliance+Statements; ComponentLink20URL: http://sigma.octopart.com:80/150605461/rohs_statement/ON-Semiconductor-BC846BLT1G.pdf?src-supplier=Compliance+Statements; ComponentLink20Description: http://sigma.octopart.com:80/150605461/rohs_statement/ON-Semiconductor-BC846BLT1G.pdf?src-supplier=Compliance+Statements; ComponentLink21URL: http://sigma.octopart.com:80/reach_statement/ON-Semiconductor-company-79.pdf?src-supplier=Compliance+Statements; ComponentLink21Description: http://sigma.octopart.com:80/reach_statement/ON-Semiconductor-company-79.pdf?src-supplier=Compliance+Statements; ComponentLink22URL: https://octopart.com:443/opatz8j6/c1?t=8p3-awRhLSs3_9tZ2d1xgJPJObJD5CqLfZpDE2QQITUx47ceSoJEB2qxIh36HEQGDjyAaXBMlCInLB9wXlruKAzqfndwlQ6M0x5pby2t3A8QBiEnrEz9EcARUoGgtPZ0ZEp3oHJjmHJ68cyhIZW9NOtUpRpck2BEj3tN1YuBfnv7j_kt0Vj0ZxwRLAxw5eghnVqi2NNVqxl9N9m8Gl5DYoQiVm1LuNJs-TKSKSd4-QEg-RNy_LMP1UDyGY_ubwKQ-S48A0nyNZ9VLXAmPMU4C-hujDbWUybxAQmSui7ds-qfxvAH8__CUVFmJSbohIwvejS__vKKgOg7vNktJI2-JuVKLufpfdkYBKOCDQ&src-supplier=Compliance+Statements; ComponentLink22Description: https://octopart.com:443/opatz8j6/c1?t=8p3-awRhLSs3_9tZ2d1xgJPJObJD5CqLfZpDE2QQITUx47ceSoJEB2qxIh36HEQGDjyAaXBMlCInLB9wXlruKAzqfndwlQ6M0x5pby2t3A8QBiEnrEz9EcARUoGgtPZ0ZEp3oHJjmHJ68cyhIZW9NOtUpRpck2BEj3tN1YuBfnv7j_kt0Vj0ZxwRLAxw5eghnVqi2NNVqxl9N9m8Gl5DYoQiVm1LuNJs-TKSKSd4-QEg-RNy_LMP1UDyGY_ubwKQ-S48A0nyNZ9VLXAmPMU4C-hujDbWUybxAQmSui7ds-qfxvAH8__CUVFmJSbohIwvejS__vKKgOg7vNktJI2-JuVKLufpfdkYBKOCDQ&src-supplier=Compliance+Statements; ComponentLink23URL: https://octopart.com:443/opatz8j6/c1?t=cB04AA5vxQghmLuxYqHqKJ3tSwxwC6p0AbrDBwJY0Oqnpm-uZ1rCJD3bLbId1FP9PJpWC3DwDI6UN-pCoWwBh674lgWQh17YaQb7DIFEzHcGOnXUiDMus7-GEpvTgW9eOGgxmj3alpUpI8aDAN0hAtiy3U_3dCa8jpN7fmeYK36IWiZUxqr8PqIxAAWAuBIUuVrxEZmY9eee4J_0WL-LRipKr5_7w2uPjnJrAY09366OI6JzeIGhxSSsxlpvz0Pht_Iw1dySjZjth4Oe6A-FESXbp6_4QEmdB9MNoIHiPfAOWxQ9KNClAzNmlhsMccWjYwzcX03Rq2EdJ6b65sxctD4NT4Rn3-Nhb1Wg&src-supplier=Compliance+Statements; ComponentLink23Description: https://octopart.com:443/opatz8j6/c1?t=cB04AA5vxQghmLuxYqHqKJ3tSwxwC6p0AbrDBwJY0Oqnpm-uZ1rCJD3bLbId1FP9PJpWC3DwDI6UN-pCoWwBh674lgWQh17YaQb7DIFEzHcGOnXUiDMus7-GEpvTgW9eOGgxmj3alpUpI8aDAN0hAtiy3U_3dCa8jpN7fmeYK36IWiZUxqr8PqIxAAWAuBIUuVrxEZmY9eee4J_0WL-LRipKr5_7w2uPjnJrAY09366OI6JzeIGhxSSsxlpvz0Pht_Iw1dySjZjth4Oe6A-FESXbp6_4QEmdB9MNoIHiPfAOWxQ9KNClAzNmlhsMccWjYwzcX03Rq2EdJ6b65sxctD4NT4Rn3-Nhb1Wg&src-supplier=Compliance+Statements
footprint SOT-23 (SOT23, 3-Leads, Body 2.92x1.3mm, Pitch 0.95mm)
pins: 1 BASE_TR2, 2 EMITTER_TR2, 3 COLLECTOR_TR2

## BQ41Z50
designator U?, comment BQ41Z50RSNR
2 to 4 series Li-ion highly integrated battery fuel gauge and protector 32-QFN -40 to 85; Manufacturer: Texas Instruments; Manufacturer Lifecycle Status: ACTIVE; Supplier 1: DigiKey; Supplier Part Number 1: 296-BQ41Z50RSNRCT-ND; Supplier: DigiKey; Supplier Part Number: 296-BQ41Z50RSNRCT-ND; Manufacturer Part Number: BQ41Z50RSNR; RoHS: Compliant; Category: Battery Management; Stock: 1851; Pricing: 1=5,55, 10=4,246, 25=3,9192, 100=3,5599, 250=3,38876, 500=3,28558, 1000=3,20063 (USD); Height: 800µm; Length: 4mm; Lifecycle Status: Production; Pins: 32; Thickness: 750µm; Width: 4mm; ComponentLink1URL: https://sigma.octopart.com:443/189718236/technical_drawing/Texas-Instruments-BQ41Z50RSNR.pdf?src-supplier=Texas+Instruments; ComponentLink1Description: https://sigma.octopart.com:443/189718236/technical_drawing/Texas-Instruments-BQ41Z50RSNR.pdf?src-supplier=Texas+Instruments; ComponentLink2URL: https://octopart.com:443/opatz8j6/c1?t=TSHOvo4lcCG09GQtGsyYGYrG5ebfY15oncaDagXwiw1dRk6UlXLULpBPciz2aRybJtMUn7Uj9XPnsGP7mBmdYw3-fd3ZaiqP3piYkPBcaeP4ZrfppAvWOsNsBrkaiauqSTo1ezVDrtljwgKD7vryttAQkyfgveS-TB0Xea2x2If99O1EXmgW--o9g_JHmgDGhVDNqzp4jgizunIPmWB0k021L5mOS6yvKjicdbQBFttyVRdgFGc1RtNCu9CLkop523qEj2pXpYzj5dV3-n9CjYtRfYYrXibyoob4tWijr7bHacxq_PqsAC283w4DVDz-wVBSFOmveujaasoD3Bs_tf-SbQsLNg8Dj1iKSZfS1O68xdoLb5h6LxNVt6LDhmI7fwPEFQQZ&src-supplier=Texas+Instruments; ComponentLink2Description: https://octopart.com:443/opatz8j6/c1?t=TSHOvo4lcCG09GQtGsyYGYrG5ebfY15oncaDagXwiw1dRk6UlXLULpBPciz2aRybJtMUn7Uj9XPnsGP7mBmdYw3-fd3ZaiqP3piYkPBcaeP4ZrfppAvWOsNsBrkaiauqSTo1ezVDrtljwgKD7vryttAQkyfgveS-TB0Xea2x2If99O1EXmgW--o9g_JHmgDGhVDNqzp4jgizunIPmWB0k021L5mOS6yvKjicdbQBFttyVRdgFGc1RtNCu9CLkop523qEj2pXpYzj5dV3-n9CjYtRfYYrXibyoob4tWijr7bHacxq_PqsAC283w4DVDz-wVBSFOmveujaasoD3Bs_tf-SbQsLNg8Dj1iKSZfS1O68xdoLb5h6LxNVt6LDhmI7fwPEFQQZ&src-supplier=Texas+Instruments; ComponentLink3URL: http://sigma.octopart.com:80/conflict_mineral_statement/Texas-Instruments-company-63.pdf?src-supplier=Compliance+Statements; ComponentLink3Description: http://sigma.octopart.com:80/conflict_mineral_statement/Texas-Instruments-company-63.pdf?src-supplier=Compliance+Statements; ComponentLink4URL: http://sigma.octopart.com:80/reach_statement/Texas-Instruments-company-64.pdf?src-supplier=Compliance+Statements; ComponentLink4Description: http://sigma.octopart.com:80/reach_statement/Texas-Instruments-company-64.pdf?src-supplier=Compliance+Statements
footprint VQFN32 (VQFN, 32-Leads, Body 5x5mm)
pins: 1 SMBD, 2 SMBC, 3 GPIO4/LEDCNTLA, 4 GPIO5/LEDCNTLB, 5 ~{ALERT}, 6 GPIO3, 7 ~{PRES}/~{SHUTDN}, 8 GPIO6/LEDCNTLC, 9 GPIO1, 10 GPIO2, 11 VSS, 12 FUSE, 13 PCHG, 14 VCC, 15 PACK, 16 DSG, 17 CHG, 18 BAT, 19 VC4, 20 VC3, 21 VC2, 22 VC1, 23 VC0, 24 SRP, 25 SRN, 26 TS1, 27 TS2, 28 TS3, 29 TS4, 30 REG18, 31 REG135, 32 GPIO7/~{DIS}P, EP

## BQ25756
designator U?, comment BQ25756RRVR
STAND-ALONE OR IC CONTROLLED 70- Charger IC Multi-Chemistry 36-VQFN (5x6); Manufacturer: Texas Instruments; Manufacturer Lifecycle Status: ACTIVE; Supplier 1: DigiKey; Supplier Part Number 1: 296-BQ25756RRVRCT-ND; Supplier: DigiKey; Supplier Part Number: 296-BQ25756RRVRCT-ND; Manufacturer Part Number: BQ25756RRVR; RoHS: Compliant; Category: Battery Management; Stock: 3338; Pricing: 1=7,03, 10=5,423, 25=5,02, 100=4,5774, 250=4,36628, 500=4,23908, 1000=4,13436 (USD); Case/Package: VQFN; Height: 0m; Length: 6mm; Lifecycle Status: Production; Pins: 36; Thickness: 900µm; Width: 5mm; ComponentLink1URL: https://sigma.octopart.com:443/175475772/technical_drawing/Texas-Instruments-BQ25756RRVR.pdf?src-supplier=Texas+Instruments; ComponentLink1Description: https://sigma.octopart.com:443/175475772/technical_drawing/Texas-Instruments-BQ25756RRVR.pdf?src-supplier=Texas+Instruments; ComponentLink2URL: https://octopart.com:443/opatz8j6/c1?t=42GTeey3_Piq5P3Boh_7VT1sNKRi0J1INbPDC671ubhr-XLBVPaP3qDehkQcPoWuxWRMj_jKC3HyJR2Zqj_181IucPKrVeb5eY55-RfyZBoYewvFsU7NOngJXV2WZ1UHJqWKSNgZfoeCs572sFfIkTFFRSoEKlUbrXPk_Sxe7LpFOw6n-n2CcBPFYfrgheGX5XXyHFHPkNyFudvlZmFkMmasgQmF3CiBOIPPxuGhgrQX1sjyCd0sH-eKiernRKvYzHIgPrPdbN4IsOCQMXG0fgHnyHK58qL7IFAWDw2wx1-43shVfrDi5I1zxcvxGoNdMbxvFYU49vONtnLs14UHCAZ6j6Hm9W4rXUNcPu0VH21cMFMZsUtvfzmqF7pbqZHOyG8mLPI&src-supplier=Texas+Instruments; ComponentLink2Description: https://octopart.com:443/opatz8j6/c1?t=42GTeey3_Piq5P3Boh_7VT1sNKRi0J1INbPDC671ubhr-XLBVPaP3qDehkQcPoWuxWRMj_jKC3HyJR2Zqj_181IucPKrVeb5eY55-RfyZBoYewvFsU7NOngJXV2WZ1UHJqWKSNgZfoeCs572sFfIkTFFRSoEKlUbrXPk_Sxe7LpFOw6n-n2CcBPFYfrgheGX5XXyHFHPkNyFudvlZmFkMmasgQmF3CiBOIPPxuGhgrQX1sjyCd0sH-eKiernRKvYzHIgPrPdbN4IsOCQMXG0fgHnyHK58qL7IFAWDw2wx1-43shVfrDi5I1zxcvxGoNdMbxvFYU49vONtnLs14UHCAZ6j6Hm9W4rXUNcPu0VH21cMFMZsUtvfzmqF7pbqZHOyG8mLPI&src-supplier=Texas+Instruments; ComponentLink3URL: https://sigma.octopart.com:443/175417745/technical_drawing/Texas-Instruments-BQ25756RRVR.pdf?src-supplier=Texas+Instruments; ComponentLink3Description: https://sigma.octopart.com:443/175417745/technical_drawing/Texas-Instruments-BQ25756RRVR.pdf?src-supplier=Texas+Instruments; ComponentLink4URL: http://sigma.octopart.com:80/conflict_mineral_statement/Texas-Instruments-company-63.pdf?src-supplier=Compliance+Statements; ComponentLink4Description: http://sigma.octopart.com:80/conflict_mineral_statement/Texas-Instruments-company-63.pdf?src-supplier=Compliance+Statements; ComponentLink5URL: http://sigma.octopart.com:80/reach_statement/Texas-Instruments-company-64.pdf?src-supplier=Compliance+Statements; ComponentLink5Description: http://sigma.octopart.com:80/reach_statement/Texas-Instruments-company-64.pdf?src-supplier=Compliance+Statements
footprint VQFN36(5x6) (VQFN, 32-Leads, Body 5x6mm)
pins: 1 SCL, 2 SDA, 3 ~{INT}, 4 STAT1, 5 STAT2, 6 ~{PG}, 7 ~{CE}, 8 TS, 9 ICHG, 10 ILIM_HIZ, 11 FBG, 12 FB, 13 SRN, 14 SRP, 15 N/C, 16 N/C, 17 PGND, 18 SW2, 19 HIDRV2, 20 BTST2, 21 LODRV2, 22 PGND, 23 DRV_SUP, 24 REGN, 25 LODRV1, 26 BTST1, 27 HIDRV1, 28 SW1, 29 ACN, 30 ACP, 31 N/C, 32 VAC, 33 VAC, 34 ACUV, 35 ACOV, 36 FSW_SYNC, EP

## BQ25798
designator U?, comment BQ25798RQMR
"IC CONTROLLED, 1-4-CELL, 5-A BUC" Charger IC Lithium Ion/Polymer 29-VQFN-HR (4x4); Manufacturer: Texas Instruments; Manufacturer Lifecycle Status: ACTIVE; Supplier: DigiKey; Supplier Part Number: 296-BQ25798RQMRCT-ND; Manufacturer Part Number: BQ25798RQMR; RoHS: Compliant; Category: Battery Management; Stock: 10382; Pricing: 1=5,05, 10=3,849, 25=3,5488, 100=3,2185, 250=3,06116, 500=2,96628, 1000=2,88821 (USD); Height: 1mm; Length: 4mm; Lifecycle Status: Production; Pins: 29; Thickness: 900µm; Width: 4mm; ComponentLink1URL: https://octopart.com:443/opatz8j6/c1?t=AtbO8efry2WTN2gFjtgBxMY6LZuHejqxDvY6ixiIvgUIlWKbW9fW-RVSVa1ieIUozK2vE766ljDbOHGZGH03IvkCoLKfos1gr7JTpEROYBWXUIFmi9vS1bRZaFtq9ovUaopKUvHvxSat-rZUgPR4kKa1csP8HFO3XFUKRJVFHtIArN3-5fJZLbbnR5tuL3X2fFGkaduU03U0R-QXXC5J0fddv3HMakQvxGu3tH9CRsaQvM9RUYAnAI2LDAiyIt7lZPCgSG2pGluG7M6wHzqvlVdZt9mUXywXW08Wke4p8Pdwv_eYWhXFCWt5SU4RIwp_KYu38d-xu1UE92EsJWvcTANIaIWo9W-7ZKf8WclIGYQujn-4dek7zCL43wLQxBDIoJ7yRiIW&src-supplier=Texas+Instruments; ComponentLink1Description: https://octopart.com:443/opatz8j6/c1?t=AtbO8efry2WTN2gFjtgBxMY6LZuHejqxDvY6ixiIvgUIlWKbW9fW-RVSVa1ieIUozK2vE766ljDbOHGZGH03IvkCoLKfos1gr7JTpEROYBWXUIFmi9vS1bRZaFtq9ovUaopKUvHvxSat-rZUgPR4kKa1csP8HFO3XFUKRJVFHtIArN3-5fJZLbbnR5tuL3X2fFGkaduU03U0R-QXXC5J0fddv3HMakQvxGu3tH9CRsaQvM9RUYAnAI2LDAiyIt7lZPCgSG2pGluG7M6wHzqvlVdZt9mUXywXW08Wke4p8Pdwv_eYWhXFCWt5SU4RIwp_KYu38d-xu1UE92EsJWvcTANIaIWo9W-7ZKf8WclIGYQujn-4dek7zCL43wLQxBDIoJ7yRiIW&src-supplier=Texas+Instruments; ComponentLink2URL: https://datasheet.octopart.com:443/BQ25798RQMR-Texas-Instruments-datasheet-165811120.pdf?src-supplier=Augswan; ComponentLink2Description: https://datasheet.octopart.com:443/BQ25798RQMR-Texas-Instruments-datasheet-165811120.pdf?src-supplier=Augswan; ComponentLink3URL: https://datasheet.octopart.com:443/BQ25798RQMR-Texas-Instruments-datasheet-178849203.pdf?src-supplier=LCSC; ComponentLink3Description: https://datasheet.octopart.com:443/BQ25798RQMR-Texas-Instruments-datasheet-178849203.pdf?src-supplier=LCSC; ComponentLink4URL: http://sigma.octopart.com:80/conflict_mineral_statement/Texas-Instruments-company-63.pdf?src-supplier=Compliance+Statements; ComponentLink4Description: http://sigma.octopart.com:80/conflict_mineral_statement/Texas-Instruments-company-63.pdf?src-supplier=Compliance+Statements; ComponentLink5URL: http://sigma.octopart.com:80/reach_statement/Texas-Instruments-company-64.pdf?src-supplier=Compliance+Statements; ComponentLink5Description: http://sigma.octopart.com:80/reach_statement/Texas-Instruments-company-64.pdf?src-supplier=Compliance+Statements; Supplier 1: DigiKey; Supplier Part Number 1: 296-BQ25798RQMRCT-ND
footprint VQFN29-HR (VQFN29, 32-Leads, Body 4x4mm)
pins: 1 STAT, 2 VBUS, 3 VBUS, 4 BTST1, 5 REGN, 6 D+, 7 D-, 8 VAC2, 9 VAC1, 10 ACDRV2, 11 ACDRV1, 12 ~{QON}, 13 ~{CE}, 14 SCL, 15 SDA, 16 TS, 17 ILIM_HiZ, 18 BATP, 19 BTST2, 20 PROG, 21 ~{INT}, 22 BAT, 23 BAT, 24 SDRV, 25 SYS, 26 SW2, 27 GND, 28 SW1, 29 PMID

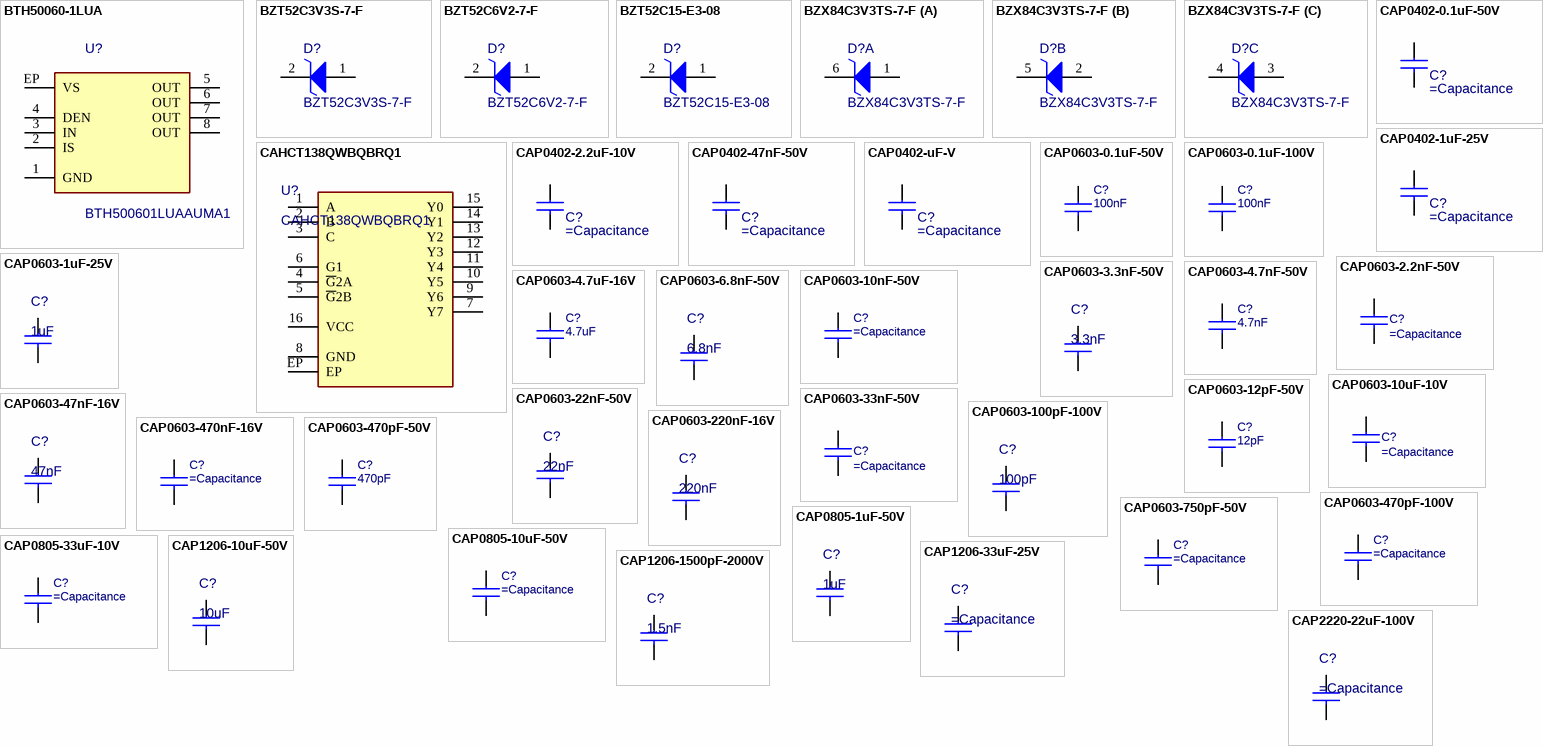
[diagram p1: symbols BTH50060-1LUA to CAP2220-22uF-100V]

## BTH50060-1LUA
designator U?, comment BTH500601LUAAUMA1
Power Load Sw, High Side, 150DEGC, HSOF8;; Manufacturer: Infineon; Supplier 1: DigiKey; Supplier Part Number 1: 448-BTH500601LUAAUMA1CT-ND; Supplier: DigiKey; Supplier Part Number: 448-BTH500601LUAAUMA1CT-ND; Manufacturer Part Number: BTH500601LUAAUMA1; Category: Power Switch ICs - Power Distribution; Stock: 3526; Pricing: 1=4,49, 10=3,408, 25=3,1372, 100=2,8399, 250=2,69812, 500=2,61266, 1000=2,54235 (USD); ComponentLink1URL: http://sigma.octopart.com:80/conflict_mineral_statement/Infineon-company-51.pdf?src-supplier=Compliance+Statements; ComponentLink1Description: http://sigma.octopart.com:80/conflict_mineral_statement/Infineon-company-51.pdf?src-supplier=Compliance+Statements
footprint PG-HSOF-8-1 (VQFN, 16-Leads, Body 4x4mm)
pins: 1 GND, 2 IS, 3 IN, 4 DEN, 5 OUT, 6 OUT, 7 OUT, 8 OUT, EP VS

## BZT52C3V3S-7-F
designator D?
DIODE ZENER 3.3V 200MW SOD323; Manufacturer: Diodes; Forward Current: 10mA; Reverse Voltage: 1V; Supplier: Farnell; Supplier Part Number: 2077918; Manufacturer Part Number: BZT52C3V3S-7-F; RoHS: Yes; Category: Zener Diodes; Stock: 5765; ComponentLink1URL: https://datasheet.ciiva.com/15142/getdatasheetpartid-61179-15142297.pdf?src-supplier=Verical; ComponentLink1Description: https://datasheet.ciiva.com/15142/getdatasheetpartid-61179-15142297.pdf?src-supplier=Verical; ComponentLink2URL: https://datasheet.ciiva.com/27052/1539606-27052379.pdf?src-supplier=Jameco; ComponentLink2Description: https://datasheet.ciiva.com/27052/1539606-27052379.pdf?src-supplier=Jameco; Supplier 1: Digikey; Supplier Part Number 1: BZT52C3V3S-FDICT-ND
footprint SOD-123 (SOD, 2-Leads, Body 2.69x1.6mm)
pins: 1, 2